# Altium schematic symbol library RAM_Schlib.SchLib: 11 symbols
Pins are listed as number, name and electrical type; pins without a type are passive.

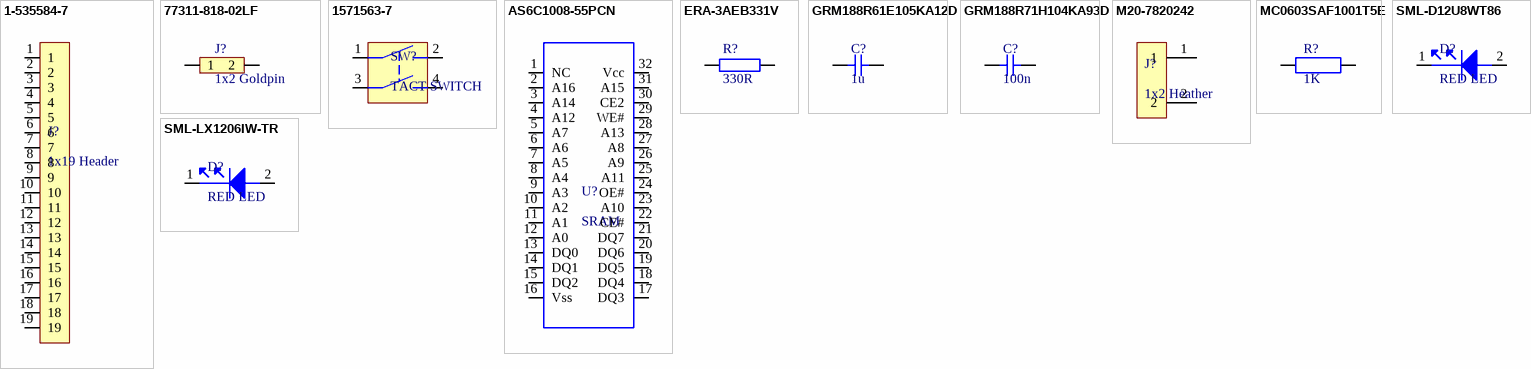
[diagram p0: symbols 1-535584-7 to SML-LX1206IW-TR]

## 1-535584-7
designator J?, comment 1x19 Header
Headers & Wire Housings 19 MODIV VRT SR CE 100/115; Manufacturer: TE Connectivity AMP; Manufacturer Part Number: 1-535584-7; Connector Type: Receptacle,Connector,Socket; Number of Positions: 19; Boss: No (Without); Contact Resistance: 12MR; High Temperature Compatible: No; Insulation Resistance: 5GR; PCB Mount Retention: Without; PCB Mounting Orientation: Vertical; Plating Thickness: 2.54um; Stackable: Yes; Contact Current Rating: 2A; Pitch: 2.54mm; PCB Thickness: 2.4mm; Tail Length: 3.18mm; Contact Post Length: 0.125inch; Approvals: CSA; Supplier 1: Farnell; Stock 1: 0; Mount: Through Hole; Color: Black; Contact Material: Bronze; Contact Plating: Tin,Lead; Housing Color: Black; Housing Material: Thermoplastic; Min Operating Temperature: -65°C; Max Operating Temperature: 125°C; Package Quantity: 11; Packaging: Rail/Tube; Number of Rows: 1; Termination: Solder; Number of Contacts: 19; Orientation: Vertical; Sealable: No (Without); Height: 3.56mm; ELV: Non-Compliant; Flammability Rating: UL94 V-0; ComponentLink1URL: http://www.te.com/commerce/DocumentDelivery/DDEController?Action=srchrtrv&DocNm=535584&DocType=Customer+Drawing&DocLang=English&src-supplier=Digi-Key; ComponentLink1Description: http://www.te.com/commerce/DocumentDelivery/DDEController?Action=srchrtrv&DocNm=535584&DocType=Customer+Drawing&DocLang=English&src-supplier=Digi-Key; ComponentLink2URL: http://www.te.com/commerce/DocumentDelivery/DDEController?Action=srchrtrv&DocNm=1307819_AMPMODU&DocType=DS&DocLang=English&s_cid=1046&src-supplier=Avnet; ComponentLink2Description: http://www.te.com/commerce/DocumentDelivery/DDEController?Action=srchrtrv&DocNm=1307819_AMPMODU&DocType=DS&DocLang=English&s_cid=1046&src-supplier=Avnet; Supplier Part Number 1: 3163675; Category: Connectors
footprint 1X19_FEMALE_CONNECTOR
pins: 1, 2, 3, 4, 5, 6, 7, 8, 9, 10, 11, 12, 13, 14, 15, 16, 17, 18, 19

## 77311-818-02LF
designator J?, comment 1x2 Goldpin
Headers & Wire Housings 2P STR SR TMT HDR .38 AU .45IN LENGTH; Manufacturer: Amphenol FCI; Manufacturer Part Number: 77311-818-02LF; Number of Contacts: 2; Current Rating: 3A; Voltage Rating: 1.5kV; Gender: Male; Connector Type: Male Pin; Insulation Resistance: 5GR; Pitch: 2.54mm; Contact Post Length: 3.05mm; Supplier 1: Avnet; Stock 1: 0; Pricing 1: 1000=0.06214, 2000=0.06064, 4000=0.05929, 6000=0.058, 10000=0.05727 (USD); Mount: Through Hole; Contact Plating: Gold,GXT; Color: Black; Contact Material: Bronze; Housing Material: Thermoplastic; Housing Color: Black; Min Operating Temperature: -65°C; Max Operating Temperature: 125°C; Number of Rows: 1; Termination: Solder; Package Quantity: 1000; Packaging: Bulk; Number of Positions: 2; Max Voltage Rating (AC): 1.5kV; Orientation: Straight; Contact Gender: Male; Length: 5.08mm; Depth: 2.4mm; Contact Mating Length: 0.23inch; Radiation Hardening: No; Lead Free: Lead Free; ComponentLink1URL: http://portal.fciconnect.com/Comergent//fci/drawing/77311.pdf?src-supplier=Digi-Key; ComponentLink1Description: http://portal.fciconnect.com/Comergent//fci/drawing/77311.pdf?src-supplier=Digi-Key; ComponentLink2URL: http://portal.fciconnect.com/Comergent/fci/drawing/77311.pdf?src-supplier=Avnet; ComponentLink2Description: http://portal.fciconnect.com/Comergent/fci/drawing/77311.pdf?src-supplier=Avnet
footprint 1X2_GOLDPIN
pins: 1, 2

## 1571563-7
designator SW?, comment TACT SWITCH
Switch Tactile OFF (ON) SPST Round Button Gull Wing 0.05A 12VDC 1VA 0.98N SMD T/R; Manufacturer: TE Connectivity; Manufacturer Part Number: 1571563-7; Actuator Material: Nylon; Illumination Type: Non-Illuminated; Contact Current Rating: 50mA; Voltage Rating (DC): 24V; Max Voltage Rating (DC): 12V; Switch Function: Off-Mom; Actuator Type: Standard; Actuator Length: 0.055inch; Supplier 1: Farnell; Stock 1: 0; Mount: Surface Mount; Case/Package: SMD/SMT; Contact Plating: Silver; Contact Material: Copper Alloy; Material: Polyamide; Housing Material: Polyamide; Min Operating Temperature: -35°C; Max Operating Temperature: 85°C; Packaging: Loose Piece; Package Quantity: 750; Throw Configuration: SPST; Operating Force: 0.98N; Current Rating: 50mA; Termination: Gull Wing; Orientation: Straight; Type: Switch; Max Current Rating: 50mA; Length: 10.01mm; Height: 5mm; Depth: 5.99mm; Radiation Hardening: No; ELV: Compliant; ComponentLink1URL: http://www.te.com/commerce/DocumentDelivery/DDEController?Action=showdoc&DocId=Customer+Drawing%7F2-1437565-7%7FU2%7Fpdf%7FEnglish%7FENG_CD_2-1437565-7_U2.pdf%7F1571563-9&src-supplier=Avnet; ComponentLink1Description: http://www.te.com/commerce/DocumentDelivery/DDEController?Action=showdoc&DocId=Customer+Drawing%7F2-1437565-7%7FU2%7Fpdf%7FEnglish%7FENG_CD_2-1437565-7_U2.pdf%7F1571563-9&src-supplier=Avnet; Supplier Part Number 1: 3181155
footprint TACT_SWITCH_6X6MM
pins: 1, 2, 3, 4

## AS6C1008-55PCN
designator U?, comment SRAM
ALLIANCE MEMORY   AS6C1008-55PCN   SRAM, 1MB, 2.7V-5.5V, 128KX8, PDIP32; Access Time: 55ns; Max Supply Voltage: 5.5V; Min Supply Voltage: 2.7V; Interface: Parallel; Memory Type: SDR,RAM,SRAM - Asynchronous; Operating Supply Voltage: 3V; Address Bus Width: 17b; Number of Ports: 1; Number of Words: 128000; Max Supply Current: 60mA; Supplier 1: Farnell; Manufacturer: Alliance Memory; Manufacturer Part Number: AS6C1008-55PCN; Stock 1: 0; Mount: Through Hole; Case/Package: PDIP; Number of Pins: 32; Weight: 0.078125oz; Min Operating Temperature: 0°C; Max Operating Temperature: 70°C; Packaging: Rail/Tube; Package Quantity: 13; Memory Size: 1Mb; Density: 1Mb; Length: 41.91mm; Height: 3.81mm; Width: 13.818mm; Radiation Hardening: No; Lead Free: Lead Free; REACH SVHC: No SVHC; ComponentLink1URL: http://www.alliancememory.com/pdf/AS6C1008%20feb%202007.pdf?src-supplier=Avnet; ComponentLink1Description: http://www.alliancememory.com/pdf/AS6C1008%20feb%202007.pdf?src-supplier=Avnet; ComponentLink2URL: http://www.alliancememory.com/pdf/AS6C1008%20feb%202007.pdf?src-supplier=Digi-Key; ComponentLink2Description: http://www.alliancememory.com/pdf/AS6C1008%20feb%202007.pdf?src-supplier=Digi-Key; ComponentLink3URL: http://www.farnell.com/datasheets/32783.pdf?src-supplier=Element14; ComponentLink3Description: http://www.farnell.com/datasheets/32783.pdf?src-supplier=Element14; ComponentLink4URL: http://www.jameco.com/Jameco/Products/ProdDS/1927457.pdf?src-supplier=Jameco; ComponentLink4Description: http://www.jameco.com/Jameco/Products/ProdDS/1927457.pdf?src-supplier=Jameco; ComponentLink5URL: https://www.alliancememory.com/wp-content/uploads/pdf/AS6C1008%20feb%202007.pdf?src-supplier=Future+Electronics; ComponentLink5Description: https://www.alliancememory.com/wp-content/uploads/pdf/AS6C1008%20feb%202007.pdf?src-supplier=Future+Electronics; Supplier Part Number 1: 1562896
footprint DIP_32PIN_15,24mm - duplicate
pins: 1 NC, 2 A16, 3 A14, 4 A12, 5 A7, 6 A6, 7 A5, 8 A4, 9 A3, 10 A2, 11 A1, 12 A0, 13 DQ0, 14 DQ1, 15 DQ2, 16 Vss, 17 DQ3, 18 DQ4, 19 DQ5, 20 DQ6, 21 DQ7, 22 CE#, 23 A10, 24 OE#, 25 A11, 26 A9, 27 A8, 28 A13, 29 WE#, 30 CE2, 31 A15, 32 Vcc

## ERA-3AEB331V
designator R?, comment 330R
Resistor, SMD 330 Ohm 0603  ±  0.1 %, ERA3AEB331V, Panasonic Automotive & Industrial Systems; Manufacturer Part Number: ERA-3AEB331V; Power Rating: 100mW; Tolerance: 0.1%; Voltage Rating: 75V; Temperature Coefficient: 25ppm/°C; Supplier 1: Farnell; Manufacturer: Panasonic; Stock 1: 0; Mount: Surface Mount; Case/Package: 0603; Number of Pins: 2; Case Code (Metric): 1608; Case Code (Imperial): 0603; Contact Plating: Tin; Min Operating Temperature: -55°C; Max Operating Temperature: 155°C; Resistance: 330R; Packaging: Tape and Reel; Package Quantity: 1; Composition: Thin Film,Metal Film; Termination: SMD/SMT; Military Standard: Not; Number of Terminations: 2; Max Power Dissipation: 100mW; Features: Automotive AEC-Q200; Length: 1.6mm; Height: 0.45mm; Width: 0.8mm; Depth: 0.8mm; Radiation Hardening: No; REACH SVHC: No SVHC; ComponentLink1URL: http://uk.rs-online.com/webdocs/0fe2/0900766b80fe20f7.pdf?src-supplier=RSComponents; ComponentLink1Description: http://uk.rs-online.com/webdocs/0fe2/0900766b80fe20f7.pdf?src-supplier=RSComponents; ComponentLink2URL: http://www.farnell.com/datasheets/2059650.pdf?src-supplier=Farnell; ComponentLink2Description: http://www.farnell.com/datasheets/2059650.pdf?src-supplier=Farnell; ComponentLink3URL: http://www.farnell.com/datasheets/485442.pdf?src-supplier=Element14; ComponentLink3Description: http://www.farnell.com/datasheets/485442.pdf?src-supplier=Element14; ComponentLink4URL: http://industrial.panasonic.com/www-data/pdf/AOA0000/AOA0000CE26.pdf?src-supplier=Avnet; ComponentLink4Description: http://industrial.panasonic.com/www-data/pdf/AOA0000/AOA0000CE26.pdf?src-supplier=Avnet; ComponentLink5URL: http://industrial.panasonic.com/www-data/pdf/AOA0000/AOA0000CE26.pdf?src-supplier=Avnet+Europe; ComponentLink5Description: http://industrial.panasonic.com/www-data/pdf/AOA0000/AOA0000CE26.pdf?src-supplier=Avnet+Europe; ComponentLink6URL: https://www.distrelec.biz/Web/Downloads/_t/ds/ERA_eng_tds.pdf?mime=application%2Fpdf&src-supplier=Distrelec; ComponentLink6Description: https://www.distrelec.biz/Web/Downloads/_t/ds/ERA_eng_tds.pdf?mime=application%2Fpdf&src-supplier=Distrelec; ComponentLink7URL: http://industrial.panasonic.com/www-data/pdf/AOA0000/AOA0000CE26.pdf?src-supplier=Future+Electronics; ComponentLink7Description: http://industrial.panasonic.com/www-data/pdf/AOA0000/AOA0000CE26.pdf?src-supplier=Future+Electronics; ComponentLink8URL: http://www.mouser.com/ds/2/315/AOA0000C237-1100991.pdf?src-supplier=Mouser; ComponentLink8Description: http://www.mouser.com/ds/2/315/AOA0000C237-1100991.pdf?src-supplier=Mouser; ComponentLink9URL: http://industrial.panasonic.com/cdbs/www-data/pdf/RDM0000/AOA0000C307.pdf?src-supplier=Farnell; ComponentLink9Description: http://industrial.panasonic.com/cdbs/www-data/pdf/RDM0000/AOA0000C307.pdf?src-supplier=Farnell; ComponentLink10URL: https://produktinfo.conrad.com/datenblaetter/450000-474999/450515-da-01-en-WIDERSTAND_0603_ERA.pdf?src-supplier=Conrad; ComponentLink10Description: https://produktinfo.conrad.com/datenblaetter/450000-474999/450515-da-01-en-WIDERSTAND_0603_ERA.pdf?src-supplier=Conrad; Supplier Part Number 1: 1577599RL; Category: Resistors
footprint R0603
pins: 1, 2

## GRM188R61E105KA12D
designator C?, comment 1u
CERAMIC CAPACITOR, 1UF, 25V, X5R, 10%, SMD, FULL REEL; Product Range:GRM Series; Capacitance:1 F; Capacitance Tolerance:  10%; Dielectric Characteristic:X5R; Voltage Rating:25V; Ceramic Capacitor Case:0603 ^1608 Metric]; MSL:-; Manufacturer: Murata; Manufacturer Part Number: GRM188R61E105KA12D; Catrgory: Capacitors; Supplier 1: Farnell; Stock 1: 0; Mount: Surface Mount; Case/Package: 0603; Number of Pins: 2; Case Code (Metric): 1608; Case Code (Imperial): 0603; Material: Ceramic; Min Operating Temperature: -55°C; Max Operating Temperature: 85°C; Capacitance: 1uF; Tolerance: 10%; Packaging: Tape and Reel; Package Quantity: 4000; Voltage Rating: 25V; Voltage Rating (DC): 25V; Dielectric: X5R; Termination: SMD/SMT; Voltage: 25V; Length: 1.6mm; Height: 0.8mm; Width: 0.031inch; Thickness: 0.035inch; Depth: 0.8mm; Radiation Hardening: No; REACH SVHC: No SVHC; Lead Free: Lead Free; ComponentLink1URL: http://uk.rs-online.com/webdocs/1423/0900766b81423d08.pdf?src-supplier=RSComponents; ComponentLink1Description: http://uk.rs-online.com/webdocs/1423/0900766b81423d08.pdf?src-supplier=RSComponents; ComponentLink2URL: https://www.murata.com/~/media/webrenewal/support/library/catalog/products/capacitor/mlcc/c02e.ashx?la=en-us&src-supplier=Digi-Key; ComponentLink2Description: https://www.murata.com/~/media/webrenewal/support/library/catalog/products/capacitor/mlcc/c02e.ashx?la=en-us&src-supplier=Digi-Key; ComponentLink3URL: http://www.farnell.com/datasheets/1784406.pdf?src-supplier=Element14; ComponentLink3Description: http://www.farnell.com/datasheets/1784406.pdf?src-supplier=Element14; ComponentLink4URL: http://www.jameco.com/Jameco/Products/ProdDS/1857399.pdf?src-supplier=Jameco; ComponentLink4Description: http://www.jameco.com/Jameco/Products/ProdDS/1857399.pdf?src-supplier=Jameco; ComponentLink5URL: http://www.farnell.com/datasheets/2047765.pdf?src-supplier=Element14; ComponentLink5Description: http://www.farnell.com/datasheets/2047765.pdf?src-supplier=Element14; ComponentLink6URL: http://psearch.murata.com/capacitor/product/GRM188R61C474KA93%23.pdf?src-supplier=Future+Electronics; ComponentLink6Description: http://psearch.murata.com/capacitor/product/GRM188R61C474KA93%23.pdf?src-supplier=Future+Electronics; ComponentLink7URL: https://www.distrelec.biz/Web/Downloads/_t/ds/murata_MLCC_eng_tds.pdf?mime=application%2Fpdf&src-supplier=Distrelec; ComponentLink7Description: https://www.distrelec.biz/Web/Downloads/_t/ds/murata_MLCC_eng_tds.pdf?mime=application%2Fpdf&src-supplier=Distrelec; ComponentLink8URL: http://www.farnell.com/datasheets/608985.pdf?src-supplier=Element14; ComponentLink8Description: http://www.farnell.com/datasheets/608985.pdf?src-supplier=Element14; ComponentLink9URL: http://components.arrow.com/part/dataview/41894231S6753147N2606?src-supplier=Arrow; ComponentLink9Description: http://components.arrow.com/part/dataview/41894231S6753147N2606?src-supplier=Arrow; ComponentLink10URL: http://www.produktinfo.conrad.com/datenblaetter/450000-474999/450696-da-01-de-VS_CHIP_KOND_0603_1_0_UF_10Pr_25_0V_X5R.pdf?src-supplier=Conrad; ComponentLink10Description: http://www.produktinfo.conrad.com/datenblaetter/450000-474999/450696-da-01-de-VS_CHIP_KOND_0603_1_0_UF_10Pr_25_0V_X5R.pdf?src-supplier=Conrad; ComponentLink11URL: http://www.produktinfo.conrad.com/datenblaetter/450000-474999/454470-da-01-en-VS_KONDENSATOR_0603.pdf?src-supplier=Conrad; ComponentLink11Description: http://www.produktinfo.conrad.com/datenblaetter/450000-474999/454470-da-01-en-VS_KONDENSATOR_0603.pdf?src-supplier=Conrad; Supplier Part Number 1: 1403763
footprint CAP_0603
pins: 1 52, 2 53

## GRM188R71H104KA93D
designator C?, comment 100n
CERAMIC CAPACITOR, 0.1UF, 50V, X7R, 10%, 0603, FULL REEL; Product Range:GRM Series; Capacitance:0.1 F; Capacitance Tolerance:  10%; Dielectric Characteristic:X7R; Voltage Rating:50V; Ceramic Capacitor Case:0603 ^1608 Metric]; MSL:-; Manufacturer: Murata; Manufacturer Part Number: GRM188R71H104KA93D; Capacitance: 100nF; Insulation Resistance: 10GR; Supplier 1: Farnell; Stock 1: 0; Mount: Surface Mount; Case/Package: 0603; Number of Pins: 2; Case Code (Imperial): 0603; Case Code (Metric): 1608; Dielectric Material: Ceramic; Contact Plating: Tin,Matte; Material: Ceramic; Min Operating Temperature: -55°C; Max Operating Temperature: 125°C; Tolerance: 10%; Voltage Rating: 50V; Packaging: Tape and Reel; Voltage Rating (DC): 50V; Dielectric: X7R; Package Quantity: 1; Termination: SMD/SMT; Voltage: 50V; Length: 1.6mm; Height: 0.8mm; Width: 0.8mm; Thickness: 0.035inch; Depth: 0.8mm; Radiation Hardening: No; Lead Free: Lead Free; REACH SVHC: No SVHC; ComponentLink1URL: http://www.jameco.com/Jameco/Products/ProdDS/1857604.pdf?src-supplier=Jameco; ComponentLink1Description: http://www.jameco.com/Jameco/Products/ProdDS/1857604.pdf?src-supplier=Jameco; ComponentLink2URL: http://www.farnell.com/datasheets/4360.pdf?src-supplier=Element14; ComponentLink2Description: http://www.farnell.com/datasheets/4360.pdf?src-supplier=Element14; ComponentLink3URL: https://www.murata.com/~/media/webrenewal/support/library/catalog/products/capacitor/mlcc/c02e.ashx?la=en-us&src-supplier=Digi-Key; ComponentLink3Description: https://www.murata.com/~/media/webrenewal/support/library/catalog/products/capacitor/mlcc/c02e.ashx?la=en-us&src-supplier=Digi-Key; ComponentLink4URL: http://www.farnell.com/datasheets/2048072.pdf?src-supplier=Element14; ComponentLink4Description: http://www.farnell.com/datasheets/2048072.pdf?src-supplier=Element14; ComponentLink5URL: https://www.distrelec.biz/Web/Downloads/_t/ds/murata_MLCC_eng_tds.pdf?mime=application%2Fpdf&src-supplier=Distrelec; ComponentLink5Description: https://www.distrelec.biz/Web/Downloads/_t/ds/murata_MLCC_eng_tds.pdf?mime=application%2Fpdf&src-supplier=Distrelec; ComponentLink6URL: https://produktinfo.conrad.com/datenblaetter/450000-474999/451744-da-01-en-VS_KONDENSATOR_0603.pdf?src-supplier=Conrad; ComponentLink6Description: https://produktinfo.conrad.com/datenblaetter/450000-474999/451744-da-01-en-VS_KONDENSATOR_0603.pdf?src-supplier=Conrad; Supplier Part Number 1: 8820023RL; Category: Capacitors
footprint CAP_0603
pins: 1 50, 2 51

## M20-7820242
designator J?, comment 1x2 Heather
Headers & Wire Housings 2 PIN SIL VERTICAL SOCKET GOLD+TIN; Manufacturer: Harwin; Manufacturer Part Number: M20-7820242; Number of Contacts: 2; Max Current Rating: 3A; Contact Resistance: 20mR; Connector Type: Receptacle,Socket; Number of Positions: 3; Gender: Female; Pitch: 2.54mm; Supplier 1: Avnet; Stock 1: 0; Mount: Through Hole; Case/Package: SIL; Weight: 0.006349oz; Contact Plating: Gold,Tin; Color: Black; Contact Material: Bronze; Housing Color: Black; Housing Material: Nylon; Min Operating Temperature: -40°C; Max Operating Temperature: 105°C; Number of Rows: 1; Termination: Solder; Contact Gender: Female; Package Quantity: 107; Packaging: Rail/Tube; Orientation: Straight; Length: 5.48mm; Depth: 2.5mm; ComponentLink1URL: https://cdn.harwin.com/pdfs/Harwin_PC_Connectors_M20.pdf?src-supplier=Digi-Key; ComponentLink1Description: https://cdn.harwin.com/pdfs/Harwin_PC_Connectors_M20.pdf?src-supplier=Digi-Key; Supplier Part Number 1: M20-7820242; Category: Connectors
pins: 1, 2

## MC0603SAF1001T5E
designator R?, comment 1K
Resistor 0603 SMD, 1KOHM, 100mW, 1% MULTICOMP - MC0603SAF1001T5E - THICK FILM; Resistance: 1kR; Temperature Coefficient: 100ppm/°C; Voltage Rating: 75V; Supplier 1: Farnell; Manufacturer: Multicomp; Manufacturer Part Number: MC0603SAF1001T5E; Stock 1: 751; Case/Package: 0603; Case Code (Metric): 1608; Case Code (Imperial): 0603; Tolerance: 1%; Composition: Thick Film; Packaging: Cut Tape; Power Rating: 100mW; Voltage Rating (DC): 75V; REACH SVHC: Unknown; ComponentLink1URL: http://www.newark.com/pdfs/datasheets/spc/TA-677.pdf?src-supplier=Element14; ComponentLink1Description: http://www.newark.com/pdfs/datasheets/spc/TA-677.pdf?src-supplier=Element14; Supplier Part Number 1: 1632391; Category: Resistors
footprint R0603
pins: 1, 2

## SML-D12U8WT86
designator D?, comment RED LED
LED 0603 Uni-Color Red 2-Pin Chip (1608Metric) T/R; Manufacturer: Rohm; Manufacturer Part Number: SML-D12U8WT86; Lens Color: White,Diffused; Lens Style: Rectangular,Diffused,Colorless; Forward Voltage: 2.2V; Viewing Angle: 160°; Forward Current: 20mA; Luminous Intensity: 63mcd; Wavelength: 620nm; Number of LEDs: 1; Lens Transparency: Diffused; Supplier 1: Farnell; Stock 1: 0; Mount: Surface Mount; Case/Package: 0603; Number of Pins: 2; Color: Red; Case Code (Metric): 1608; Case Code (Imperial): 0603; Min Operating Temperature: -40°C; Max Operating Temperature: 85°C; Package Quantity: 1; Packaging: Tape and Reel; Test Current: 20mA; Dominant Wavelength: 620nm; Illumination Color: Red; Length: 1.6mm; Height: 0.65mm; Width: 0.8mm; Radiation Hardening: No; REACH SVHC: No SVHC; Lead Free: Lead Free; ComponentLink1URL: http://uk.rs-online.com/webdocs/13d1/0900766b813d1a87.pdf?src-supplier=RSComponents; ComponentLink1Description: http://uk.rs-online.com/webdocs/13d1/0900766b813d1a87.pdf?src-supplier=RSComponents; ComponentLink2URL: https://www.rohm.com/datasheet/SML-D12V8W?src-supplier=Digi-Key; ComponentLink2Description: https://www.rohm.com/datasheet/SML-D12V8W?src-supplier=Digi-Key; ComponentLink3URL: http://rohmfs.rohm.com/en/products/databook/datasheet/opto/led/chip_mono/sml-d1.pdf?src-supplier=Avnet; ComponentLink3Description: http://rohmfs.rohm.com/en/products/databook/datasheet/opto/led/chip_mono/sml-d1.pdf?src-supplier=Avnet; ComponentLink4URL: http://rohmfs.rohm.com/en/products/databook/datasheet/opto/led/chip_mono/sml-d1.pdf?src-supplier=Avnet+Europe; ComponentLink4Description: http://rohmfs.rohm.com/en/products/databook/datasheet/opto/led/chip_mono/sml-d1.pdf?src-supplier=Avnet+Europe; Supplier Part Number 1: 2507530RL
footprint LED_SMD_0603
pins: 1, 2

## SML-LX1206IW-TR
designator D?, comment RED LED
LED, RED 1206, 3.2MM X 1.6MM, 6MCD, 635NM, FULL REEL; LED Color:Red; Bulb Size:3.2mm x 1.6mm; Wavelength Typ:635nm; Forward Voltage:2V; Forward Current If:20mA; Luminous Intensity:6mcd; LED Mounting:SMD; Lens Shape:Rectangular; Colour:Red;RoHS Compliant: Yes; Manufacturer: Lumex; Manufacturer Part Number: SML-LX1206IW-TR; Lens Color: White; Viewing Angle: 160°; Forward Voltage: 2V; Lens Style: Rectangular,Diffused,Colorless; Forward Current: 20mA; Lens Transparency: Diffused; Number of LEDs: 1; Power Rating: 65mW; Approvals: UL,CSA; Supplier 1: Farnell; Stock 1: 0; Mount: Surface Mount; Case/Package: 1206; Number of Pins: 2; Color: Red; Case Code (Metric): 3216; Case Code (Imperial): 1206; Min Operating Temperature: -25°C; Max Operating Temperature: 85°C; Luminous Intensity: 6mcd; Wavelength: 635nm; Packaging: Tape and Reel; Package Quantity: 1; Test Current: 20mA; Dominant Wavelength: 635nm; Illumination Color: Red; Length: 3.2mm; Height: 1.1mm; Width: 1.6mm; REACH SVHC: No SVHC; Lead Free: Lead Free; ComponentLink1URL: https://www.lumex.com/content/files/ProductAttachment/SML-LX1206IW-TR.pdf?src-supplier=Digi-Key; ComponentLink1Description: https://www.lumex.com/content/files/ProductAttachment/SML-LX1206IW-TR.pdf?src-supplier=Digi-Key; ComponentLink2URL: http://www.mouser.com/ds/2/244/SML-LX1206IW-TR-1135420.pdf?src-supplier=Mouser; ComponentLink2Description: http://www.mouser.com/ds/2/244/SML-LX1206IW-TR-1135420.pdf?src-supplier=Mouser; ComponentLink3URL: http://www.lumex.com/specs/SML-LX1206IW-TR.pdf?src-supplier=Element14; ComponentLink3Description: http://www.lumex.com/specs/SML-LX1206IW-TR.pdf?src-supplier=Element14; ComponentLink4URL: http://www.lumex.com/specs/SML-LX1206IW-TR.pdf?src-supplier=Future+Electronics; ComponentLink4Description: http://www.lumex.com/specs/SML-LX1206IW-TR.pdf?src-supplier=Future+Electronics; ComponentLink5URL: http://www.onlinecomponents.com/productFiles/mf-LX/smllx1206iwtr.pdf?src-supplier=Onlinecomponents.com; ComponentLink5Description: http://www.onlinecomponents.com/productFiles/mf-LX/smllx1206iwtr.pdf?src-supplier=Onlinecomponents.com; Supplier Part Number 1: 1164382; Category: Optoelectronics
pins: 1, 2